# Altium footprint library AM335x_Thermal_Printer.PcbLib: 8 footprints
Each footprint in its own frame and in the unit in brackets; x right, y up, seen from the top. Pads: shape width x height; smd on the part's side, far side on the other; paste and mask are expansions set on the pad; w line width, h text height; cw(c..) or ccw(c..) is an arc to the next point about the centre after c.
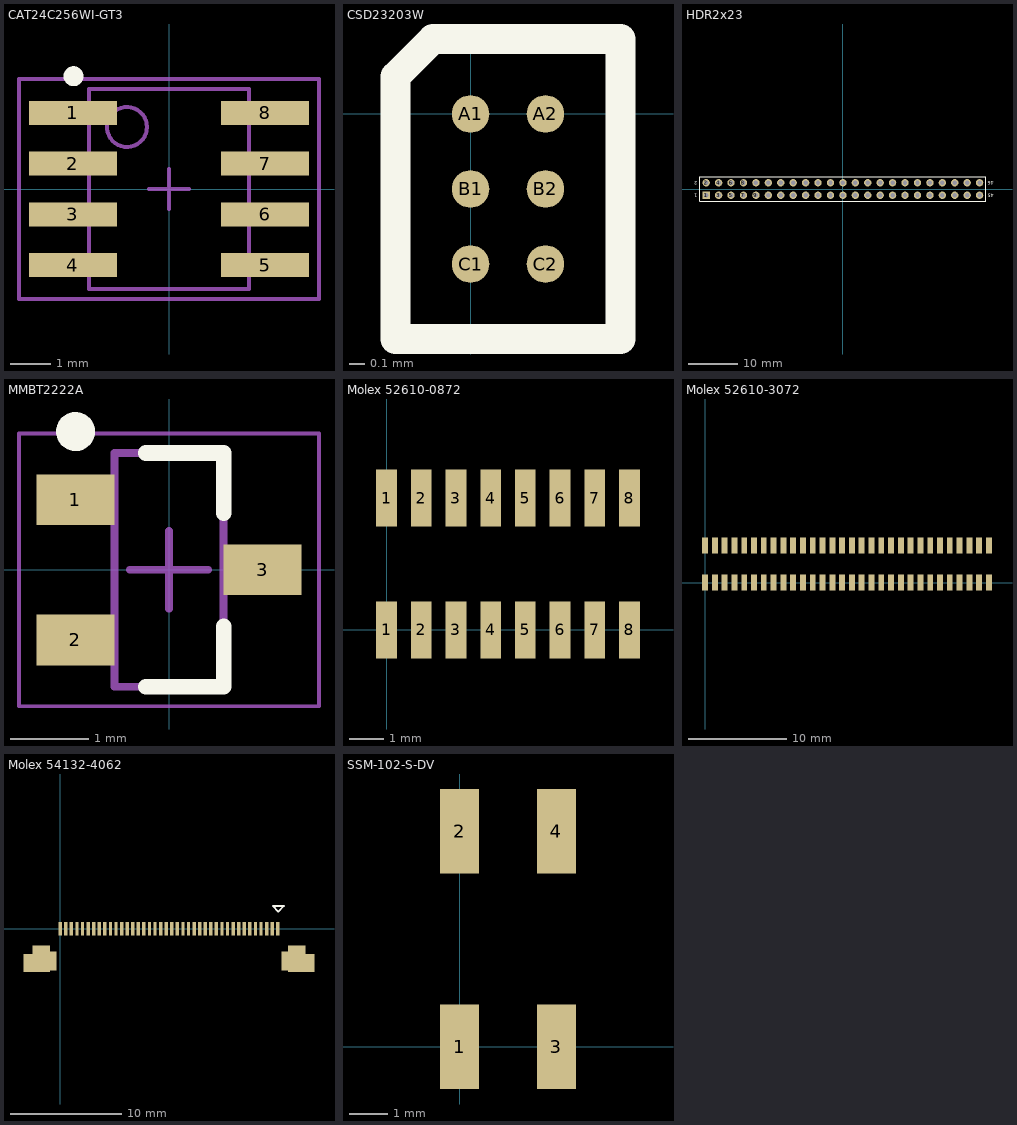
[diagram p0: the footprints below, top view; thin cyan lines are the x and y axes]

## CAT24C256WI-GT3 [mm] "IC EEPROM 256KBIT 400KHZ 8SOIC"
height 1.75
pads (8):
  rect 2.2x0.6 smd: 1(-2.4,1.905) 2(-2.4,0.635) 3(-2.4,-0.635) 4(-2.4,-1.905) 5(2.4,-1.905) 6(2.4,-0.635) 7(2.4,0.635) 8(2.4,1.905)
Top Overlay:
  circle w0.25: c-2.388,2.819 r0.125
Mechanical 13:
  circle w0.1: c-1.05,1.55 r0.5
  lines w0.1: -2,-2.5 -2,2.5 2,2.5 2,-2.5 -2,-2.5
Mechanical 15:
  lines w0.1: -0.5,0 0.5,0 ; 0,-0.5 0,0.5 ; -3.75,-2.75 -3.75,2.75 3.75,2.75 3.75,-2.75 -3.75,-2.75
3D body: height 1.75, standoff 0.1, extent -2,-2.5 2,2.5

## CSD23203W [mm]
pads (6):
  round 0.25 smd: A1(0,0) A2(0.5,0) B1(0,-0.5) B2(0.5,-0.5) C1(0,-1) C2(0.5,-1)
Top Overlay:
  lines w0.2: -0.5,-1.5 -0.5,0.25 -0.25,0.5 1,0.5 1,-1.5 -0.5,-1.5

## HDR2x23 [mm]
pads (46):
  rect 1.5x1.5 hole 0.9: 1(-27.94,-1.27)
  round 1.5 hole 0.9: 2(-27.94,1.27) 3(-25.4,-1.27) 4(-25.4,1.27) 5(-22.86,-1.27) 6(-22.86,1.27) 7(-20.32,-1.27) 8(-20.32,1.27) 9(-17.78,-1.27) 10(-17.78,1.27) 11(-15.24,-1.27) 12(-15.24,1.27) 13(-12.7,-1.27) 14(-12.7,1.27) 15(-10.16,-1.27) 16(-10.16,1.27) 17(-7.62,-1.27) 18(-7.62,1.27) 19(-5.08,-1.27) 20(-5.08,1.27) 21(-2.54,-1.27) 22(-2.54,1.27) 23(0,-1.27) 24(0,1.27) 25(2.54,-1.27) 26(2.54,1.27) 27(5.08,-1.27) 28(5.08,1.27) 29(7.62,-1.27) 30(7.62,1.27) 31(10.16,-1.27) 32(10.16,1.27) 33(12.7,-1.27) 34(12.7,1.27) 35(15.24,-1.27) 36(15.24,1.27) 37(17.78,-1.27) 38(17.78,1.27) 39(20.32,-1.27) 40(20.32,1.27) 41(22.86,-1.27) 42(22.86,1.27) 43(25.4,-1.27) 44(25.4,1.27) 45(27.94,-1.27) 46(27.94,1.27)
Top Overlay:
  lines w0.2: -29.21,-2.54 -29.21,2.54 29.21,2.54 29.21,-2.54 -29.21,-2.54
  text "45" at 30.861,-0.965 h0.64
  text "46" at 30.861,1.575 h0.64
  text "1" at -29.82,-0.965 h0.64
  text "2" at -29.794,1.6 h0.64

## MMBT2222A [mm] "40V NPN SMALL SIGNAL TRANSISTOR IN SOT23"
height 1.1
pads (3):
  rect 1x0.65 smd: 1(-1.2,0.9) 2(-1.2,-0.9) 3(1.2,0)
Top Overlay:
  circle w0.25: c-1.2,1.775 r0.125
  lines w0.2: -0.3,-1.5 0.7,-1.5 0.7,-0.725 ; -0.3,1.5 0.7,1.5 0.7,0.725
Mechanical 13:
  lines w0.1: -0.7,-1.5 0.7,-1.5 0.7,1.5 -0.7,1.5 -0.7,-1.5
Mechanical 15:
  lines w0.05: -1.925,-1.75 1.925,-1.75 1.925,1.75 -1.925,1.75 -1.925,-1.75
  lines w0.1: -0.5,0 0.5,0 ; 0,-0.5 0,0.5
3D body: height 1.1, standoff 0.05, extent -0.7,-1.5 0.7,1.5

## Molex 52610-0872 [mm] "FPC connector for Fujitsu FTP-628MCL401 (Molex 52610-0871 is obsolete)"
pads (16):
  rect 0.6x1.65 smd: 1(0,0) 1(0,3.8) 2(1,0) 2(1,3.8) 3(2,0) 3(2,3.8) 4(3,0) 4(3,3.8) 5(4,0) 5(4,3.8) 6(5,0) 6(5,3.8) 7(6,0) 7(6,3.8) 8(7,0) 8(7,3.8)
3D body: height 5.7, standoff -0.05, extent -3.81,-0.345 10.79,4.155

## Molex 52610-3072 [mm] "FPC connector for Fujitsu FTP-628MCL401 print head (Molex 52610-3071 is obsolete)"
pads (60):
  rect 0.6x1.65 smd: 1(0,0) 1(0,3.8) 2(1,0) 2(1,3.8) 3(2,0) 3(2,3.8) 4(3,0) 4(3,3.8) 5(4,0) 5(4,3.8) 6(5,0) 6(5,3.8) 7(6,0) 7(6,3.8) 8(7,0) 8(7,3.8) 9(8,0) 9(8,3.8) 10(9,0) 10(9,3.8) 11(10,0) 11(10,3.8) 12(11,0) 12(11,3.8) 13(12,0) 13(12,3.8) 14(13,0) 14(13,3.8) 15(14,0) 15(14,3.8) 16(15,0) 16(15,3.8) 17(16,0) 17(16,3.8) 18(17,0) 18(17,3.8) 19(18,0) 19(18,3.8) 20(19,0) 20(19,3.8) 21(20,0) 21(20,3.8) 22(21,0) 22(21,3.8) 23(22,0) 23(22,3.8) 24(23,0) 24(23,3.8) 25(24,0) 25(24,3.8) 26(25,0) 26(25,3.8) 27(26,0) 27(26,3.8) 28(27,0) 28(27,3.8) 29(28,0) 29(28,3.8) 30(29,0) 30(29,3.8)
3D body: height 5.7, standoff -0.05, extent -3.8,-0.45 32.8,4.05

## Molex 54132-4062 [mm] "FPC connector for NHD-2.4\" LCD (specifically NHD-2.4-240320SF-CTXL#-FTN1)"
pads (46):
  rect 0.3x1.2 smd: 1(19.5,0) 2(19,0) 3(18.5,0) 4(18,0) 5(17.5,0) 6(17,0) 7(16.5,0) 8(16,0) 9(15.5,0) 10(15,0) 11(14.5,0) 12(14,0) 13(13.5,0) 14(13,0) 15(12.5,0) 16(12,0) 17(11.5,0) 18(11,0) 19(10.5,0) 20(10,0) 21(9.5,0) 22(9,0) 23(8.5,0) 24(8,0) 25(7.5,0) 26(7,0) 27(6.5,0) 28(6,0) 29(5.5,0) 30(5,0) 31(4.5,0) 32(4,0) 33(3.5,0) 34(3,0) 35(2.5,0) 36(2,0) 37(1.5,0) 38(1,0) 39(0.5,0) 40(0,0)
  rect 0.8x1.6 smd: ""(-2.9,-3.1) ""(22.4,-3.1)
  rect 1.6x2.4 smd: ""(-1.7,-2.7) ""(21.2,-2.7)
  rect 0.55x1.7 smd: ""(-0.625,-2.9) ""(20.125,-2.9)
Top Overlay:
  lines w0.152: 19.05,2.032 20.066,2.032 19.558,1.524 19.05,2.032
3D body: height 2, standoff -0.05, extent -2.973,-6.775 22.527,0.375
3D body: height 6.1, standoff 2.5, extent -11.684,-46.736 31.242,13.716

## SSM-102-S-DV [mm] "4-pin 0.1\" recepticle, surface mount for FTDI"
pads (4):
  rect 1.02x2.22 smd: 1(0,0) 2(0,5.65) 3(2.54,0) 4(2.54,5.65)
3D body: height 7.37, standoff -0.13, extent -1.27,-0.724 3.81,6.312